# EAGLE library part 72R508 (library con-molex)
BEAU Terminal Block 72 R Series
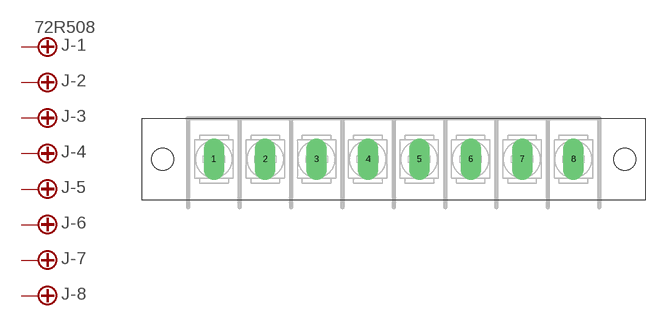
[diagram p128: symbol with the pads of 72R508; footprint 72R508]

Designator prefix J; gates -1=STV -2=ST -3=ST -4=ST -5=ST -6=ST -7=ST -8=ST

## 72R508  [72R508]
1  -1:S  pas
2  -2:S  pas
3  -3:S  pas
4  -4:S  pas
5  -5:S  pas
6  -6:S  pas
7  -7:S  pas
8  -8:S  pas

## Footprint 72R508 (pad centres in mm)
BEAU Terminal Block 72 R Series - 0.375" pitch
drill 1.778 pad 3.81 long: 1 -33.337,0; 2 -23.812,0; 3 -14.287,0; 4 -4.763,0; 5 4.763,0; 6 14.287,0; 7 23.812,0; 8 33.337,0
hole 4.064 at -42.862,0
hole 4.064 at 42.862,0